# EAGLE library part 690357100672 (library Wurth_Elektronik_Electromechanic_Board_to_Board_Connectors_rev16a)
WR-MM Male Connector with Polarization, 6 Pins=>Code : Con_BTB_MM_Male_THT_690357100672 <http://katalog.we-online.de/media/thumbs2/eican/thb_Con_BTB_MM_Male_THT_69035710xx72_pf2.jpg> Details see: http://katalog.we-online.de/en/em/6903_5710_xx_72 Created 2014-06-04, Karrer Zheng 2014 (C) Würth Elektronik
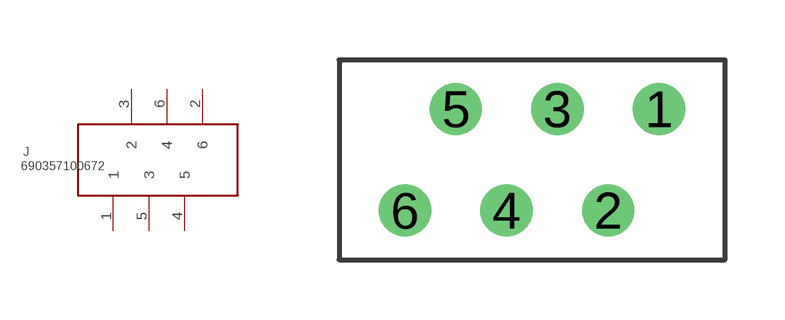
[diagram p321: symbol with the pads of 690357100672; footprint 690357100672]

Designator prefix J

## 690357100672  [690357100672]
1  1  pas
2  6  pas
3  2  pas
4  5  pas
5  3  pas
6  4  pas

## Footprint 690357100672 (pad centres in mm)
WR-MM Male Connector with Polarization, 6 Pins
drill 0.8: 1 1.905,1.27; 2 0.635,-1.27; 3 -0.635,1.27; 4 -1.905,-1.27; 5 -3.175,1.27; 6 -4.445,-1.27